# Altium schematic symbol library SCH - COMPARATOR - MICROCHIP MCP6566R SOT23.SCHLIB: 1 symbol
Pins are listed as number, name and electrical type; pins without a type are passive.

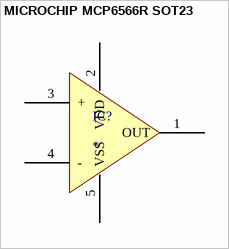
[diagram p0: symbol MICROCHIP MCP6566R SOT23]

## MICROCHIP MCP6566R SOT23
designator IC?
pins: 1 OUT, 2 VDD (power), 3 +, 4 -, 5 VSS (power)